# EAGLE library part ROTARY_ENC_SWITCH (library xess)
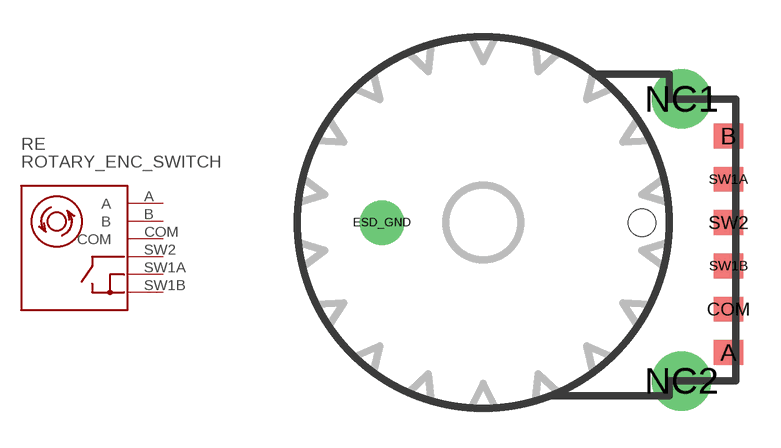
[diagram p121: symbol with the pads of EVQWK4; footprint EVQWK4]

Designator prefix RE

## ROTARY_ENC_SWITCHEVQWK4  [EVQWK4]
A  A
B  B
COM  COM
SW1A  SW1A
SW1B  SW1B
SW2  SW2

## Footprint EVQWK4 (pad centres in mm)
smd 1.2 x 1: A 9.9,-5.25; B 9.9,3.5; COM 9.9,-3.5; SW1A 9.9,1.75; SW1B 9.9,-1.75; SW2 9.9,0
drill 1.2 round: ESD_GND -4.1,0
drill 1.6 round: NC1 8,5; NC2 8,-6.4
hole 1.1 at 6.4,0